# Altium schematic symbol library WallBaseBoard_1.SCHLIB: 21 symbols
Pins are listed as number, name and electrical type; pins without a type are passive.

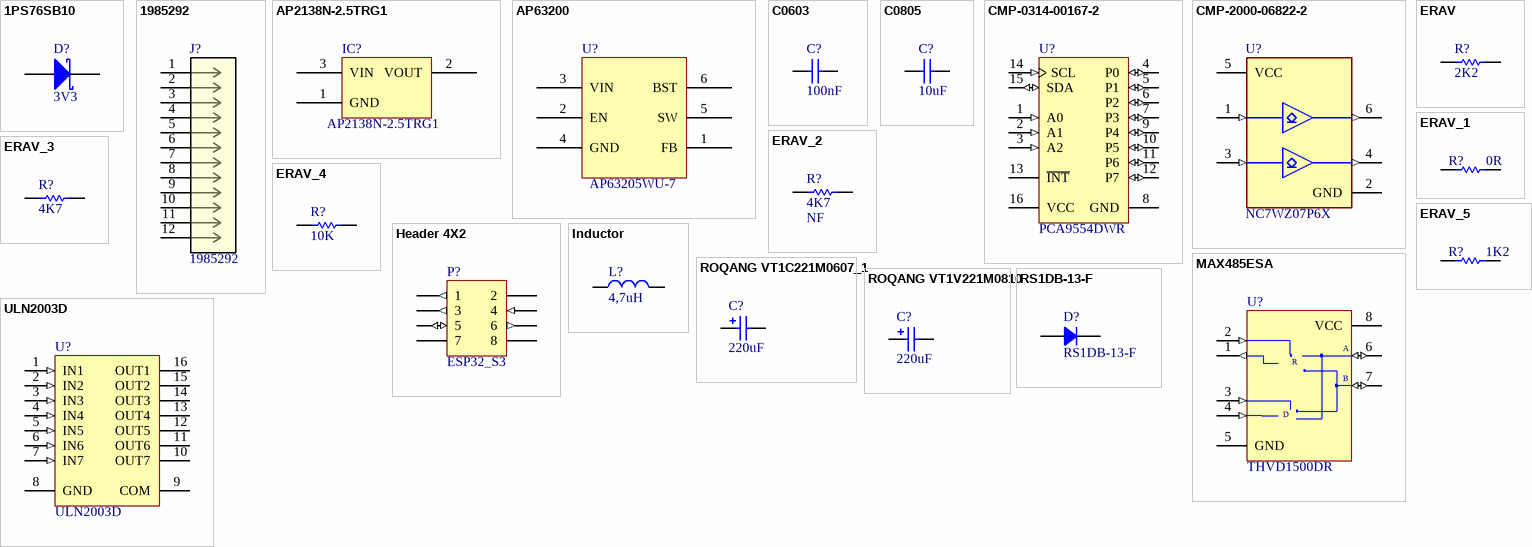
[diagram p0: symbols 1PS76SB10 to ULN2003D]

## 1PS76SB10
designator D?, comment 3V3
Schottky Barrier Diode; Published: 17-Sep-2003; LatestRevisionDate: 19-Mar-2004; LatestRevisionNote: Silkscreen size reduced.; DatasheetVersion: 14-Oct-1996; PackageVersion: May-1999; PackageReference: SOD323; Publisher: Altium Limited; PackageDescription: SOD-323/SC-76; 2 Leads; Body 1.7 x 1.3 mm, (LxW); ComponentLink1Description: Manufacturer Link; ComponentLink1URL: http://www.semiconductors.philips.com/; ComponentLink2Description: Datasheet; ComponentLink2URL: http://www.semiconductors.philips.com/acrobat/datasheets/1PS76SB10_2.pdf
footprint SOD323 (SOD-323/SC-76; 2 Leads; Body 1.7 x 1.3 mm, (LxW))
simulation model D1PS76SBD10 (SUBCKT)
signal-integrity model 1PS76SB10
pins: 1 K, 2 A

## 1985292
designator J?
PCB terminal block, nominal current: 8 A, nom. voltage: 400 V, pitch: 3.5 mm, number of positions: 12, connection method: Push-in spring connection, mounting: Wave soldering, conductor/PCB connection direction: 45 Â°, color: green. Offset soldering legs, two-rowed; Manufacturer_Name: Phoenix Contact; Copyright: Copyright (C) 2026 Ultra Librarian. All rights reserved.; Manufacturer_Part_Number: 1985292; RefDes: RefDes; Type: Type
footprint CONN_1985292_PXC
pins: 1, 2, 3, 4, 5, 6, 7, 8, 9, 10, 11, 12

## AP2138N-2.5TRG1
designator IC?
IC REG LINEAR 2.5V 250MA SOT23-3; Manufacturer: Diodes Incorporated; Current - Quiescent (Iq): 1.5 µA; Number of Regulators: 1; Output Configuration: Positive; Output Type: Fixed; Protection Features: Over Current; Voltage Dropout (Max): 1V @ 250mA; Voltage - Input (Max): 6V; Part Number: AP2138N-2.5TRG1; ComponentLink1Description: Datasheet; ComponentLink1URL: https://www.diodes.com/assets/Datasheets/AP2138-9.pdf; ComponentLink2Description: DigiKey Link; ComponentLink2URL: https://www.digikey.com/en/products/detail/diodes-incorporated/AP2138N-2-5TRG1/4470803; Current - Output: 250mA; LastUpdated: 3. 4. 2026. 21:07:40; Lifecycle Status: Active; Minimum Order: 1; Mounting Type: Surface Mount; Operating Temperature: -40°C ~ 85°C (TA); Package / Case: TO-236-3, SC-59, SOT-23-3; Packaging: TapeAndReel; Part Status: Active; Price: 0.08; Series: -; Supplier 1: DigiKey; Supplier Part Number 1: AP2138N-2.5TRG1DICT-ND; Supplier Device Package: SOT-23-3; Voltage - Output (Min/Fixed): 2.5V
footprint DIODES SOT-23-3 N
pins: 1 GND, 2 VOUT, 3 VIN

## AP63200
designator U?, comment AP63205WU-7
2A synchronous  buck converter
footprint TSOT-26
pins: 1 FB, 2 EN, 3 VIN (power), 4 GND (power), 5 SW, 6 BST

## C0603
designator C?, comment 100nF
Ceramic Chip Capacitor - Standard; Note: Footprint corresponds to dimensions for bulk cassette packaging. This case size has tightened tolerances.; Published: 17-Jul-2002; LatestRevisionDate: 19-Mar-2004; LatestRevisionNote: Silkscreen size reduced.; DatasheetDocument: Mar-2001; PackageDocument: Mar-2001; PackageReference: 0603; Publisher: Altium Limited; Code_JEITA: 0603; Code_IPC: 1608 [0603]; ComponentLink1Description: Manufacturer Link; ComponentLink1URL: http://www.kemet.com/; ComponentLink2Description: Datasheet; ComponentLink2URL: http://www.kemet.com/kemet/web/homepage/kechome.nsf/vapubfilesname/F3102TA.pdf/$file/F3102TA.pdf; Value: 100nF
footprint 0603 (Chip Capacitor; Body 1.6 x 0.8 mm (LxW typ))
simulation model CAP (Capacitor)
signal-integrity model C0603
pins: 1, 2

## C0805
designator C?, comment value 10uF  (hidden comment: 4u7)
Ceramic Chip Capacitor - Standard; Note: Footprint corresponds to dimensions for bulk cassette packaging. This case size has tightened tolerances.; Published: 17-Jul-2002; LatestRevisionDate: 19-Mar-2004; LatestRevisionNote: Silkscreen size reduced.; DatasheetDocument: Mar-2001; PackageDocument: Mar-2001; PackageReference: 0805; Publisher: Altium Limited; Code_JEITA: 0805; Code_IPC: 2012[0805]; ComponentLink1Description: Manufacturer Link; ComponentLink1URL: http://www.kemet.com/; ComponentLink2Description: Datasheet; ComponentLink2URL: http://www.kemet.com/kemet/web/homepage/kechome.nsf/vapubfilesname/F3102TA.pdf/$file/F3102TA.pdf
footprint 0805 (Chip Capacitor; Body 2.0 x 1.2 mm (LxW typ))
simulation model CAP (Capacitor)
signal-integrity model C0805
pins: 1, 2

## CMP-0314-00167-2
designator U?, comment PCA9554DWR
Remote 8-Bit I2C and SMBus I/O Expander with Interrupt Output and Configuration Registers, 8 Outputs, 2.3 to 5.5 V, -40 to 85 degC, 16-pin SOIC (DW), Green (RoHS & no Sb/Br); Manufacturer: Texas Instruments; I2C Address: 0100 xxx; 5V Tolerant I/O: Yes; fSCLK(Max)(MHz): 400; No. of Outputs: 8; VCC(Min)(V): 2.3; Technology Family: PCA; VCC(Max)(V): 5.5; SubFamily: I2C IO Expander; ComponentLink2URL: http://www.ti.com/litv/pdf/msoi003g; Vcc range(V): 2.3 to 5.5; Code_JEDEC: MS-013-AA; Mounting Technology: Surface Mount; ComponentLink1Description: Datasheet; PartNumber: PCA9554DWR; PackageReference: DW0016A; # of I/Os: 8; PackageDescription: 16-Pin Small Outline Integrated Circuit, 10.3 x 7.5 mm, Pitch 1.27 mm Pitch; Interrupt Output: Yes; PackageVersion: revG, Jan-2011; Configuration Registers: Yes; Max Frequency(kHz): 400; Eco-Plan: Green (RoHS & no Sb/Br); ComponentLink2Description: Package Specification; DatasheetVersion: SCPS128B; Push-Pull I/O Type: Yes; ComponentLink1URL: http://www.ti.com/general/docs/lit/getliterature.tsp?genericPartNumber=PCA9554&fileType=pdf
footprint DW0016A_N (SOIC, 16-Leads, Body 10.5x7.6mm, Pitch 1.27mm, IPC Medium Density)
footprint DW0016A_L (SOIC, 16-Leads, Body 10.5x7.6mm, Pitch 1.27mm, IPC High Density)
footprint DW0016A_M (SOIC, 16-Leads, Body 10.5x7.6mm, Pitch 1.27mm, IPC Low Density)
pins: 1 A0 (in) "Address input. Connect directly to VCC or ground.", 2 A1 (in) "Address input. Connect directly to VCC or ground.", 3 A2 (in) "Address input. Connect directly to VCC or ground.", 4 P0 (io) "P-port input/output. Push-pull design structure.", 5 P1 (io) "P-port input/output. Push-pull design structure.", 6 P2 (io) "P-port input/output. Push-pull design structure.", 7 P3 (io) "P-port input/output. Push-pull design structure.", 8 GND (power) "Ground", 9 P4 (io) "P-port input/output. Push-pull design structure.", 10 P5 (io) "P-port input/output. Push-pull design structure.", 11 P6 (io) "P-port input/output. Push-pull design structure.", 12 P7 (io) "P-port input/output. Push-pull design structure.", 13 ~{INT} (oc) "Interrupt output. Connect to VCC through a pullup resistor.", 14 SCL (in) "Serial clock bus. Connect to VCC through a pullup resistor.", 15 SDA (io) "Serial data bus. Connect to VCC through a pullup resistor.", 16 VCC (power) "Supply voltage"

## CMP-2000-06822-2
designator U?, comment NC7WZ07P6X
IC BUF NON-INVERT 5.5V SC70-6; Propagation Delay: 12.6ns; Max Power Dissipation: 180mW; High Level Output Current: 32mA; Number of Outputs: 2; Number of Bits per Element: 1; Polarity: Non-Inverting; Max Supply Current: 24mA; Turn-On Delay Time: 11.5ns; Logic Function: Buffer; Min Supply Voltage: 1.65V; Quiescent Current: 1uA; REACH SVHC: No SVHC; Lead Free: Lead Free; Packaging: Tape and Reel; Low Level Output Current: 32mA; Number of Channels: 2; Number of Output Lines: 2; Number of Bits: 2; Min Operating Temperature: -40°C; Radiation Hardening: No; Number of Elements: 2; Number of Pins: 6; Number of Inputs: 2; Max Supply Voltage: 5.5V; Package Quantity: 1; Termination: SMD/SMT; Number of Input Lines: 2; Number of Circuits: 2; Weight: 0.028g; Max Operating Temperature: 85°C; Case/Package: SC; Length: 2mm; Width: 1.25mm; Mount: Surface Mount; Height: 1mm
footprint FP-419AD-01-MFG
footprint FP-419AD-01-IPC_C
footprint FP-419AD-01-IPC_B
footprint FP-419AD-01-IPC_A
pins: 1 A1 (in), 2 GND (power), 3 A2 (in), 4 Y2 (out), 5 VCC (power), 6 Y1 (out)

## ERAV
designator R?, comment value 2K2  (hidden comment: 10K)
Metal Film Thermosensitive Chip Resistor, 0.56 Ohm to 10k Ohm Range, 5% Tolerance, 0603 Size, 0.063 W; Note: If flow soldering, adjust pad width of PCB Footprint to 0.7 - 0.8 times the width of the resistor.; Published: 17-Dec-2003; LatestRevisionDate: 19-Mar-2004; LatestRevisionNote: Silkscreen size reduced.; PackageDocument: Mar-2003; PackageReference: ERA-0603; Publisher: Altium Limited; Code_IPC: 1608 [0603]; ComponentLink1Description: Manufacturer Link; ComponentLink1URL: http://www.panasonic.com/industrial/components/resistive_products.htm; ComponentLink2Description: Datasheet; ComponentLink2URL: http://www.panasonic.com/industrial/components/pdf/AOF0000CE1.pdf
footprint ERA-0603 (Chip Resistor; Body 1.6 x 0.8 mm (LxW typ))
simulation model RESISTOR (Resistor)
signal-integrity model Res
pins: 1, 2

## ERAV_1
designator R?, comment value 0R  (hidden comment: 10K)
Metal Film Thermosensitive Chip Resistor, 0.56 Ohm to 10k Ohm Range, 5% Tolerance, 0603 Size, 0.063 W; Note: If flow soldering, adjust pad width of PCB Footprint to 0.7 - 0.8 times the width of the resistor.; Published: 17-Dec-2003; LatestRevisionDate: 19-Mar-2004; LatestRevisionNote: Silkscreen size reduced.; PackageDocument: Mar-2003; PackageReference: ERA-0603; Publisher: Altium Limited; Code_IPC: 1608 [0603]; ComponentLink1Description: Manufacturer Link; ComponentLink1URL: http://www.panasonic.com/industrial/components/resistive_products.htm; ComponentLink2Description: Datasheet; ComponentLink2URL: http://www.panasonic.com/industrial/components/pdf/AOF0000CE1.pdf
footprint ERA-0603 (Chip Resistor; Body 1.6 x 0.8 mm (LxW typ))
simulation model RESISTOR (Resistor)
signal-integrity model Res
pins: 1, 2

## ERAV_2
designator R?, comment NF  value 4K7
Metal Film Thermosensitive Chip Resistor, 0.56 Ohm to 10k Ohm Range, 5% Tolerance, 0603 Size, 0.063 W; Note: If flow soldering, adjust pad width of PCB Footprint to 0.7 - 0.8 times the width of the resistor.; Published: 17-Dec-2003; LatestRevisionDate: 19-Mar-2004; LatestRevisionNote: Silkscreen size reduced.; PackageDocument: Mar-2003; PackageReference: ERA-0603; Publisher: Altium Limited; Code_IPC: 1608 [0603]; ComponentLink1Description: Manufacturer Link; ComponentLink1URL: http://www.panasonic.com/industrial/components/resistive_products.htm; ComponentLink2Description: Datasheet; ComponentLink2URL: http://www.panasonic.com/industrial/components/pdf/AOF0000CE1.pdf
footprint ERA-0603 (Chip Resistor; Body 1.6 x 0.8 mm (LxW typ))
simulation model RESISTOR (Resistor)
signal-integrity model Res
pins: 1, 2

## ERAV_3
designator R?, comment value 4K7  (hidden comment: 10K)
Metal Film Thermosensitive Chip Resistor, 0.56 Ohm to 10k Ohm Range, 5% Tolerance, 0603 Size, 0.063 W; Note: If flow soldering, adjust pad width of PCB Footprint to 0.7 - 0.8 times the width of the resistor.; Published: 17-Dec-2003; LatestRevisionDate: 19-Mar-2004; LatestRevisionNote: Silkscreen size reduced.; PackageDocument: Mar-2003; PackageReference: ERA-0603; Publisher: Altium Limited; Code_IPC: 1608 [0603]; ComponentLink1Description: Manufacturer Link; ComponentLink1URL: http://www.panasonic.com/industrial/components/resistive_products.htm; ComponentLink2Description: Datasheet; ComponentLink2URL: http://www.panasonic.com/industrial/components/pdf/AOF0000CE1.pdf
footprint ERA-0603 (Chip Resistor; Body 1.6 x 0.8 mm (LxW typ))
simulation model RESISTOR (Resistor)
signal-integrity model Res
pins: 1, 2

## ERAV_4
designator R?, comment 10K
Metal Film Thermosensitive Chip Resistor, 0.56 Ohm to 10k Ohm Range, 5% Tolerance, 0603 Size, 0.063 W; Note: If flow soldering, adjust pad width of PCB Footprint to 0.7 - 0.8 times the width of the resistor.; Published: 17-Dec-2003; LatestRevisionDate: 19-Mar-2004; LatestRevisionNote: Silkscreen size reduced.; PackageDocument: Mar-2003; PackageReference: ERA-0603; Publisher: Altium Limited; Code_IPC: 1608 [0603]; ComponentLink1Description: Manufacturer Link; ComponentLink1URL: http://www.panasonic.com/industrial/components/resistive_products.htm; ComponentLink2Description: Datasheet; ComponentLink2URL: http://www.panasonic.com/industrial/components/pdf/AOF0000CE1.pdf; Value: 10K
footprint ERA-0603 (Chip Resistor; Body 1.6 x 0.8 mm (LxW typ))
simulation model RESISTOR (Resistor)
signal-integrity model Res
pins: 1, 2

## ERAV_5
designator R?, comment value 1K2  (hidden comment: 10K)
Metal Film Thermosensitive Chip Resistor, 0.56 Ohm to 10k Ohm Range, 5% Tolerance, 0603 Size, 0.063 W; Note: If flow soldering, adjust pad width of PCB Footprint to 0.7 - 0.8 times the width of the resistor.; Published: 17-Dec-2003; LatestRevisionDate: 19-Mar-2004; LatestRevisionNote: Silkscreen size reduced.; PackageDocument: Mar-2003; PackageReference: ERA-0603; Publisher: Altium Limited; Code_IPC: 1608 [0603]; ComponentLink1Description: Manufacturer Link; ComponentLink1URL: http://www.panasonic.com/industrial/components/resistive_products.htm; ComponentLink2Description: Datasheet; ComponentLink2URL: http://www.panasonic.com/industrial/components/pdf/AOF0000CE1.pdf
footprint ERA-0603 (Chip Resistor; Body 1.6 x 0.8 mm (LxW typ))
simulation model RESISTOR (Resistor)
signal-integrity model Res
pins: 1, 2

## Header 4X2
designator P?, comment ESP32_S3
Header, 4-Pin, Dual row; LatestRevisionDate: 17-Jul-2002; LatestRevisionNote: Re-released for DXP Platform.; Publisher: Altium Limited
footprint HDR2X4 (Connector; Header; 4x2 Position)
signal-integrity model Connector
pins: 1 (out), 2, 3 (out), 4 (in), 5 (io), 6 (out), 7, 8

## Inductor
designator L?  value 4,7uH  (hidden comment: Inductor)
2A 4.7uH Magnetic Adhesive Inductor ±20% 2.9A SMD-2P,4x4mm Power Inductors ROHS
footprint Inductor (Filter inductor 100uH)
footprint XRNR4030-4.7uH/M (2A 4.7uH Magnetic Adhesive Inductor ±20% 2.9A SMD-2P,4x4mm Power Inductors ROHS)
pins: 1, 2

## MAX485ESA
designator U?, comment THVD1500DR
Low-Power, Slew-Rate-Limited RS-485/RS-422 Transceiver; Published: 16-Jan-2001; LatestRevisionDate: 13-Apr-2006; LatestRevisionNote: IPC-7351 Footprint Added.; DatasheetVersion: Feb-1996; PackageReference: NSO8; Publisher: Altium Limited; PackageDescription: 8-Pin Small Outline Integrated Circuit 1.27 mm Pitch; Code_JEDEC: MS-012-AA; Code_IPC: SOIC127P600-8; ComponentLink1Description: Manufacturer Link; ComponentLink1URL: http://www.maxim-ic.com/; ComponentLink2Description: Datasheet; ComponentLink2URL: http://pdfserv.maxim-ic.com/en/ds/MAX1487-MAX491.pdf
footprint NSO8_N (SOIC, 8-Leads, Body 4.9x3.9mm, Pitch 1.27mm, IPC Medium Density)
footprint NSO8_L (SOIC, 8-Leads, Body 4.9x3.9mm, Pitch 1.27mm, IPC High Density)
footprint NSO8_M (SOIC, 8-Leads, Body 4.9x3.9mm, Pitch 1.27mm, IPC Low Density)
3D model NSO8 (8-Pin Small Outline Integrated Circuit 1.27 mm Pitch)
pins: 1 RO (out), 2 ~{RE} (in), 3 DE (in), 4 DI (in), 5 GND (power), 6 A (io), 7 B (io), 8 VCC (power)
text: R; D

## ROQANG VT1C221M0607_1
designator C?  value 220uF  (hidden comment: ROQANG VT1C221M0607_1)
220uF 16V 110mA@120Hz ±20% SMD,D6.3xL7.7mm Aluminum Electrolytic Capacitors - SMD ROHS; Note: Refer to Manufacturer's Data Sheets for other lead formations; DrillSize: Nominal, Rounded To The Nearest 0.1mm; Published: 19-Mar-2004; DatasheetDocument: 20-Feb-2001; PackageReference: CAPPR2-5X11; Publisher: Altium Limited; ComponentLink1Description: Manufacturer Link; ComponentLink1URL: http://www.vishay.com/; ComponentLink2Description: Datasheet; ComponentLink2URL: http://www.vishay.com/docs/25014/eka.pdf
footprint SMD,D6.3xL7.7mm Aluminum Electrolytic Capacitors
pins: 1, 2
1 alternate drawing of the same symbol

## ROQANG VT1V221M0810
designator C?, comment 220uF
220uF 35V 195mA@120Hz ±20% SMD,D8xL10.2mm Aluminum Electrolytic Capacitors - SMD ROHS; Note: Refer to Manufacturer's Data Sheets for other lead formations; DrillSize: Nominal, Rounded To The Nearest 0.1mm; Published: 19-Mar-2004; DatasheetDocument: 20-Feb-2001; PackageReference: CAPPR2-5X11; Publisher: Altium Limited; ComponentLink1Description: Manufacturer Link; ComponentLink1URL: http://www.vishay.com/; ComponentLink2Description: Datasheet; ComponentLink2URL: http://www.vishay.com/docs/25014/eka.pdf; Value: 220uF
footprint SMD,D8xL10.2mm (220uF 35V 195mA@120Hz ±20% SMD,D8xL10.2mm Aluminum Electrolytic Capacitors - SMD ROH)
pins: 1, 2
1 alternate drawing of the same symbol

## RS1DB-13-F
designator D?
DIODE STANDARD 200V 1A SMB; Manufacturer: Diodes Incorporated; Capacitance @ Vr, F: 15pF @ 4V, 1MHz; Current - Reverse Leakage @ Vr: 5 µA @ 200 V; Reverse Recovery Time (trr): 150 ns; Speed: Fast Recovery =< 500ns, > 200mA (Io); Voltage - Forward (Vf) (Max) @ If: 1.3 V @ 1 A; Part Number: RS1DB-13-F; ComponentLink1Description: Datasheet; ComponentLink1URL: https://www.diodes.com/assets/Datasheets/ds15002.pdf; ComponentLink2Description: DigiKey Link; ComponentLink2URL: https://www.digikey.com/en/products/detail/diodes-incorporated/RS1DB-13-F/814459; Current - Average Rectified (Io): 1A; Diode Type: Standard; LastUpdated: 3. 4. 2026. 20:33:12; Lifecycle Status: Active; Minimum Order: 1; Mounting Type: Surface Mount; Operating Temperature - Junction: -65°C ~ 150°C; Package / Case: DO-214AA, SMB; Packaging: TapeAndReel; PartId: 28; Part Status: Active; Price: 0.06; Series: -; Supplier 1: DigiKey; Supplier Part Number 1: RS1DB-FDICT-ND; Supplier Device Package: SMB; Voltage - DC Reverse (Vr) (Max): 200 V
footprint DO214AA SMB
pins: 1, 2

## ULN2003D
designator U?
Seven Darlington Array; Published: 8-Jun-2000; LatestRevisionDate: 13-Apr-2006; LatestRevisionNote: IPC-7351 Footprint Added.; DatasheetVersion: Sep-1998; PackageVersion: May-1998; PackageReference: SO16; Publisher: Altium Limited; PackageDescription: 16-Pin Small Outline Integrated Circuit 1.27 mm Pitch; Code_IPC: SOIC127P600-16; ComponentLink1Description: Manufacturer Link; ComponentLink1URL: http://www.st.com/; ComponentLink2Description: Datasheet; ComponentLink2URL: http://www.st.com/stonline/products/literature/ds/5279/uln2001.pdf
footprint SO16_N (SOIC, 16-Leads, Body 9.9x3.9mm, Pitch 1.27mm, IPC Medium Density)
footprint SO16_L (SOIC, 16-Leads, Body 9.9x3.9mm, Pitch 1.27mm, IPC High Density)
footprint SO16_M (SOIC, 16-Leads, Body 9.9x3.9mm, Pitch 1.27mm, IPC Low Density)
3D model SO16 (16-Pin Small Outline Integrated Circuit 1.27 mm Pitch)
pins: 1 IN1 (in), 2 IN2 (in), 3 IN3 (in), 4 IN4 (in), 5 IN5 (in), 6 IN6 (in), 7 IN7 (in), 8 GND (power), 9 COM, 10 OUT7 (oc), 11 OUT6 (oc), 12 OUT5 (oc), 13 OUT4 (oc), 14 OUT3 (oc), 15 OUT2 (oc), 16 OUT1 (oc)